# Altium footprint library 0805-LED.PcbLib: 1 footprints
Each footprint in its own frame and in the unit in brackets; x right, y up, seen from the top. Pads: shape width x height; smd on the part's side, far side on the other; paste and mask are expansions set on the pad; w line width, h text height; cw(c..) or ccw(c..) is an arc to the next point about the centre after c.
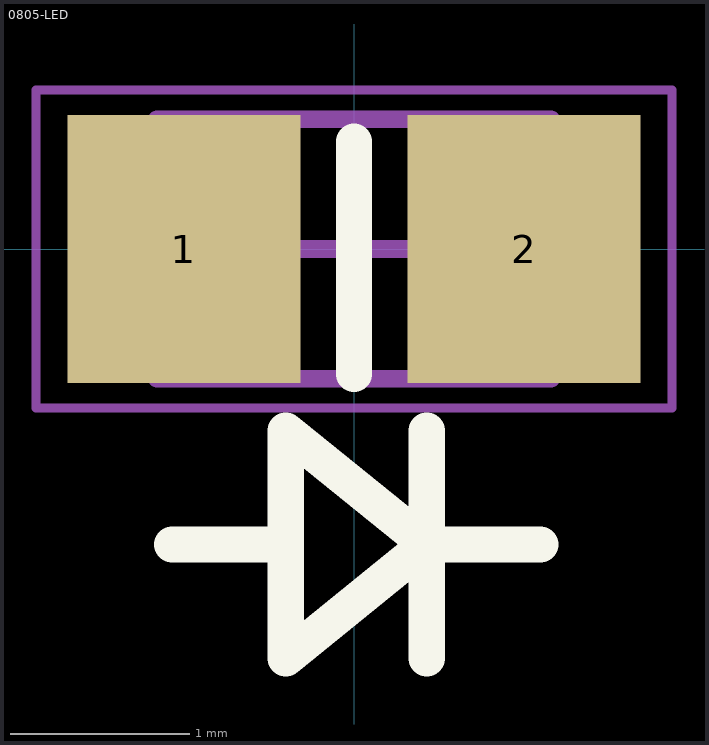
[diagram p0: the footprint, top view; thin cyan lines are the x and y axes]

## 0805-LED [mm]
pads (2):
  rect 1.3x1.5 smd: 1(-0.95,0) 2(0.95,0)
Top Overlay:
  lines w0.2: 0,-0.7 0,0.6
  lines w0.203: -1.016,-1.651 -0.381,-1.651 ; 0.406,-2.286 0.406,-1.651 ; 0.406,-1.016 0.406,-1.651 ; 1.041,-1.651 0.406,-1.651 ; 0.406,-1.651 -0.381,-2.286 -0.381,-1.016 0.406,-1.651
Mechanical 12:
  text ".Designator" at -0.762,-0.254 h0.51
Mechanical 13:
  lines w0.1: -1.1,-0.725 1.1,-0.725 1.1,0.725 -1.1,0.725 -1.1,-0.725
Mechanical 15:
  lines w0.05: -1.778,-0.889 1.778,-0.889 1.778,0.889 -1.778,0.889 -1.778,-0.889
  lines w0.1: -0.5,0 0.5,0 ; 0,-0.5 0,0.5
3D body "User Library-led_0805LED0805_yellow.STEP": height 1.15, standoff 0.05, extent -1.01,-0.625 1.01,0.625